# EAGLE library part LFD039AUE (library opto)
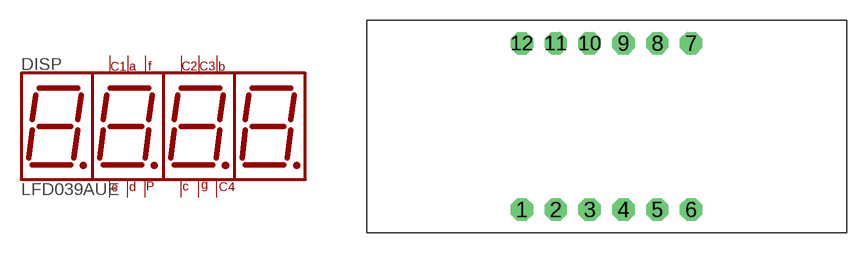
[diagram p2: symbol with the pads of LFD039AUE; footprint LFD039AUE]

Designator prefix DISP

## LFD039AUE  [LFD039AUE]
1  E  pas
2  D  pas
3  DP  pas
4  C  pas
5  G  pas
6  CC4  pas
7  B  pas
8  CC3  pas
9  CC2  pas
10  F  pas
11  A  pas
12  CC1  pas

## Footprint LFD039AUE (pad centres in mm)
drill 0.8 pad 1.676 octagon: 1 -6.35,-6.25; 2 -3.81,-6.25; 3 -1.27,-6.25; 4 1.27,-6.25; 5 3.81,-6.25; 6 6.35,-6.25; 7 6.35,6.25; 8 3.81,6.25; 9 1.27,6.25; 10 -1.27,6.25; 11 -3.81,6.25; 12 -6.35,6.25